# Altium footprint library STM32W.PcbLib: 6 footprints
Each footprint in its own frame and in the unit in brackets; x right, y up, seen from the top. Pads: shape width x height; smd on the part's side, far side on the other; paste and mask are expansions set on the pad; w line width, h text height; cw(c..) or ccw(c..) is an arc to the next point about the centre after c.
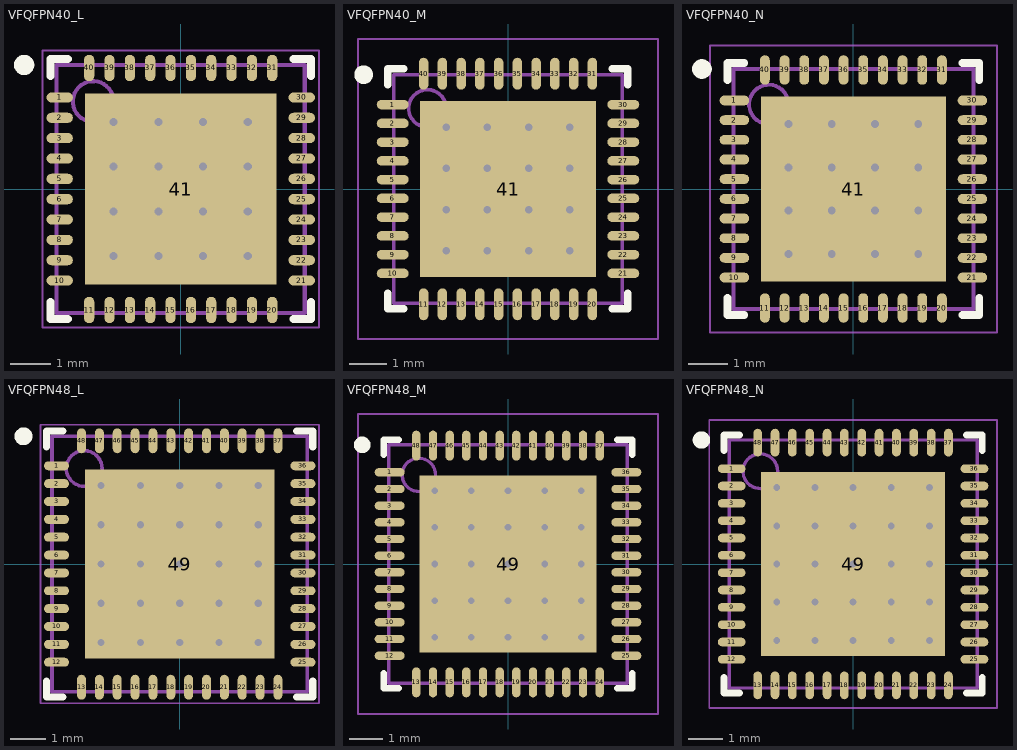
[diagram p0: the footprints below, top view; thin cyan lines are the x and y axes]

## VFQFPN40_L [mm] "QFN, 40-Leads, Body 6x6mm, Pitch 0.5mm, Thermal Pad 4.7x4.7mm, IPC High Density"
height 1
pads (41):
  oval 0.65x0.25 smd: 1(-2.975,2.25) 2(-2.975,1.75) 3(-2.975,1.25) 4(-2.975,0.75) 5(-2.975,0.25) 6(-2.975,-0.25) 7(-2.975,-0.75) 8(-2.975,-1.25) 9(-2.975,-1.75) 10(-2.975,-2.25) 21(2.975,-2.25) 22(2.975,-1.75) 23(2.975,-1.25) 24(2.975,-0.75) 25(2.975,-0.25) 26(2.975,0.25) 27(2.975,0.75) 28(2.975,1.25) 29(2.975,1.75) 30(2.975,2.25)
  oval 0.25x0.65 smd: 11(-2.25,-2.975) 12(-1.75,-2.975) 13(-1.25,-2.975) 14(-0.75,-2.975) 15(-0.25,-2.975) 16(0.25,-2.975) 17(0.75,-2.975) 18(1.25,-2.975) 19(1.75,-2.975) 20(2.25,-2.975) 31(2.25,2.975) 32(1.75,2.975) 33(1.25,2.975) 34(0.75,2.975) 35(0.25,2.975) 36(-0.25,2.975) 37(-0.75,2.975) 38(-1.25,2.975) 39(-1.75,2.975) 40(-2.25,2.975)
  rect 4.7x4.7 smd: 41(0,0)
via -1.65,1.65 diameter 0.5 hole 0.2
via -0.55,1.65 diameter 0.5 hole 0.2
via 0.55,1.65 diameter 0.5 hole 0.2
via 1.65,1.65 diameter 0.5 hole 0.2
via -1.65,0.55 diameter 0.5 hole 0.2
via -0.55,0.55 diameter 0.5 hole 0.2
via 0.55,0.55 diameter 0.5 hole 0.2
via 1.65,0.55 diameter 0.5 hole 0.2
via -1.65,-0.55 diameter 0.5 hole 0.2
via -0.55,-0.55 diameter 0.5 hole 0.2
via 0.55,-0.55 diameter 0.5 hole 0.2
via 1.65,-0.55 diameter 0.5 hole 0.2
via -1.65,-1.65 diameter 0.5 hole 0.2
via -0.55,-1.65 diameter 0.5 hole 0.2
via 0.55,-1.65 diameter 0.5 hole 0.2
via 1.65,-1.65 diameter 0.5 hole 0.2
Top Overlay:
  circle w0.25: c-3.85,3.05 r0.125
  lines w0.2: -3.2,-2.775 -3.2,-3.2 -2.775,-3.2 ; -3.2,2.775 -3.2,3.2 -2.775,3.2 ; 2.775,-3.2 3.2,-3.2 3.2,-2.775 ; 2.775,3.2 3.2,3.2 3.2,2.775
Mechanical 13:
  circle w0.1: c-2.15,2.15 r0.5
  lines w0.1: -3.05,-3.05 -3.05,3.05 3.05,3.05 3.05,-3.05 -3.05,-3.05
Mechanical 15:
  lines w0.05: -3.4,-3.4 -3.4,3.4 3.4,3.4 3.4,-3.4 -3.4,-3.4
  lines w0.1: -0.5,0 0.5,0 ; 0,-0.5 0,0.5
3D body: height 1, standoff 0, extent -3.05,-3.05 3.05,3.05

## VFQFPN40_M [mm] "QFN, 40-Leads, Body 6x6mm, Pitch 0.5mm, Thermal Pad 4.7x4.7mm, IPC Low Density"
height 1
pads (41):
  oval 0.85x0.25 smd: 1(-3.075,2.25) 2(-3.075,1.75) 3(-3.075,1.25) 4(-3.075,0.75) 5(-3.075,0.25) 6(-3.075,-0.25) 7(-3.075,-0.75) 8(-3.075,-1.25) 9(-3.075,-1.75) 10(-3.075,-2.25) 21(3.075,-2.25) 22(3.075,-1.75) 23(3.075,-1.25) 24(3.075,-0.75) 25(3.075,-0.25) 26(3.075,0.25) 27(3.075,0.75) 28(3.075,1.25) 29(3.075,1.75) 30(3.075,2.25)
  oval 0.25x0.85 smd: 11(-2.25,-3.075) 12(-1.75,-3.075) 13(-1.25,-3.075) 14(-0.75,-3.075) 15(-0.25,-3.075) 16(0.25,-3.075) 17(0.75,-3.075) 18(1.25,-3.075) 19(1.75,-3.075) 20(2.25,-3.075) 31(2.25,3.075) 32(1.75,3.075) 33(1.25,3.075) 34(0.75,3.075) 35(0.25,3.075) 36(-0.25,3.075) 37(-0.75,3.075) 38(-1.25,3.075) 39(-1.75,3.075) 40(-2.25,3.075)
  rect 4.7x4.7 smd: 41(0,0)
via -1.65,1.65 diameter 0.5 hole 0.2
via -0.55,1.65 diameter 0.5 hole 0.2
via 0.55,1.65 diameter 0.5 hole 0.2
via 1.65,1.65 diameter 0.5 hole 0.2
via -1.65,0.55 diameter 0.5 hole 0.2
via -0.55,0.55 diameter 0.5 hole 0.2
via 0.55,0.55 diameter 0.5 hole 0.2
via 1.65,0.55 diameter 0.5 hole 0.2
via -1.65,-0.55 diameter 0.5 hole 0.2
via -0.55,-0.55 diameter 0.5 hole 0.2
via 0.55,-0.55 diameter 0.5 hole 0.2
via 1.65,-0.55 diameter 0.5 hole 0.2
via -1.65,-1.65 diameter 0.5 hole 0.2
via -0.55,-1.65 diameter 0.5 hole 0.2
via 0.55,-1.65 diameter 0.5 hole 0.2
via 1.65,-1.65 diameter 0.5 hole 0.2
Top Overlay:
  circle w0.25: c-3.85,3.05 r0.125
  lines w0.2: -3.2,-2.775 -3.2,-3.2 -2.775,-3.2 ; -3.2,2.775 -3.2,3.2 -2.775,3.2 ; 2.775,-3.2 3.2,-3.2 3.2,-2.775 ; 2.775,3.2 3.2,3.2 3.2,2.775
Mechanical 13:
  circle w0.1: c-2.15,2.15 r0.5
  lines w0.1: -3.05,-3.05 -3.05,3.05 3.05,3.05 3.05,-3.05 -3.05,-3.05
Mechanical 15:
  lines w0.05: -4,-4 -4,4 4,4 4,-4 -4,-4
  lines w0.1: -0.5,0 0.5,0 ; 0,-0.5 0,0.5
3D body: height 1, standoff 0, extent -3.05,-3.05 3.05,3.05

## VFQFPN40_N [mm] "QFN, 40-Leads, Body 6x6mm, Pitch 0.5mm, Thermal Pad 4.7x4.7mm, IPC Medium Density"
height 1
pads (41):
  oval 0.75x0.25 smd: 1(-3.025,2.25) 2(-3.025,1.75) 3(-3.025,1.25) 4(-3.025,0.75) 5(-3.025,0.25) 6(-3.025,-0.25) 7(-3.025,-0.75) 8(-3.025,-1.25) 9(-3.025,-1.75) 10(-3.025,-2.25) 21(3.025,-2.25) 22(3.025,-1.75) 23(3.025,-1.25) 24(3.025,-0.75) 25(3.025,-0.25) 26(3.025,0.25) 27(3.025,0.75) 28(3.025,1.25) 29(3.025,1.75) 30(3.025,2.25)
  oval 0.25x0.75 smd: 11(-2.25,-3.025) 12(-1.75,-3.025) 13(-1.25,-3.025) 14(-0.75,-3.025) 15(-0.25,-3.025) 16(0.25,-3.025) 17(0.75,-3.025) 18(1.25,-3.025) 19(1.75,-3.025) 20(2.25,-3.025) 31(2.25,3.025) 32(1.75,3.025) 33(1.25,3.025) 34(0.75,3.025) 35(0.25,3.025) 36(-0.25,3.025) 37(-0.75,3.025) 38(-1.25,3.025) 39(-1.75,3.025) 40(-2.25,3.025)
  rect 4.7x4.7 smd: 41(0,0)
via -1.65,1.65 diameter 0.5 hole 0.2
via -0.55,1.65 diameter 0.5 hole 0.2
via 0.55,1.65 diameter 0.5 hole 0.2
via 1.65,1.65 diameter 0.5 hole 0.2
via -1.65,0.55 diameter 0.5 hole 0.2
via -0.55,0.55 diameter 0.5 hole 0.2
via 0.55,0.55 diameter 0.5 hole 0.2
via 1.65,0.55 diameter 0.5 hole 0.2
via -1.65,-0.55 diameter 0.5 hole 0.2
via -0.55,-0.55 diameter 0.5 hole 0.2
via 0.55,-0.55 diameter 0.5 hole 0.2
via 1.65,-0.55 diameter 0.5 hole 0.2
via -1.65,-1.65 diameter 0.5 hole 0.2
via -0.55,-1.65 diameter 0.5 hole 0.2
via 0.55,-1.65 diameter 0.5 hole 0.2
via 1.65,-1.65 diameter 0.5 hole 0.2
Top Overlay:
  circle w0.25: c-3.85,3.05 r0.125
  lines w0.2: -3.2,-2.775 -3.2,-3.2 -2.775,-3.2 ; -3.2,2.775 -3.2,3.2 -2.775,3.2 ; 2.775,-3.2 3.2,-3.2 3.2,-2.775 ; 2.775,3.2 3.2,3.2 3.2,2.775
Mechanical 13:
  circle w0.1: c-2.15,2.15 r0.5
  lines w0.1: -3.05,-3.05 -3.05,3.05 3.05,3.05 3.05,-3.05 -3.05,-3.05
Mechanical 15:
  lines w0.05: -3.65,-3.65 -3.65,3.65 3.65,3.65 3.65,-3.65 -3.65,-3.65
  lines w0.1: -0.5,0 0.5,0 ; 0,-0.5 0,0.5
3D body: height 1, standoff 0, extent -3.05,-3.05 3.05,3.05

## VFQFPN48_L [mm] "QFN, 48-Leads, Body 7x7mm, Pitch 0.5mm, Thermal Pad 5.3x5.3mm, IPC High Density"
height 1
pads (49):
  oval 0.7x0.25 smd: 1(-3.45,2.75) 2(-3.45,2.25) 3(-3.45,1.75) 4(-3.45,1.25) 5(-3.45,0.75) 6(-3.45,0.25) 7(-3.45,-0.25) 8(-3.45,-0.75) 9(-3.45,-1.25) 10(-3.45,-1.75) 11(-3.45,-2.25) 12(-3.45,-2.75) 25(3.45,-2.75) 26(3.45,-2.25) 27(3.45,-1.75) 28(3.45,-1.25) 29(3.45,-0.75) 30(3.45,-0.25) 31(3.45,0.25) 32(3.45,0.75) 33(3.45,1.25) 34(3.45,1.75) 35(3.45,2.25) 36(3.45,2.75)
  oval 0.25x0.7 smd: 13(-2.75,-3.45) 14(-2.25,-3.45) 15(-1.75,-3.45) 16(-1.25,-3.45) 17(-0.75,-3.45) 18(-0.25,-3.45) 19(0.25,-3.45) 20(0.75,-3.45) 21(1.25,-3.45) 22(1.75,-3.45) 23(2.25,-3.45) 24(2.75,-3.45) 37(2.75,3.45) 38(2.25,3.45) 39(1.75,3.45) 40(1.25,3.45) 41(0.75,3.45) 42(0.25,3.45) 43(-0.25,3.45) 44(-0.75,3.45) 45(-1.25,3.45) 46(-1.75,3.45) 47(-2.25,3.45) 48(-2.75,3.45)
  rect 5.3x5.3 smd: 49(0,0)
via 2.2,-2.2 diameter 0.5 hole 0.2
via 1.1,-2.2 diameter 0.5 hole 0.2
via 0,-2.2 diameter 0.5 hole 0.2
via -1.1,-2.2 diameter 0.5 hole 0.2
via -2.2,-2.2 diameter 0.5 hole 0.2
via 2.2,-1.1 diameter 0.5 hole 0.2
via 1.1,-1.1 diameter 0.5 hole 0.2
via 0,-1.1 diameter 0.5 hole 0.2
via -1.1,-1.1 diameter 0.5 hole 0.2
via -2.2,-1.1 diameter 0.5 hole 0.2
via 2.2,0 diameter 0.5 hole 0.2
via 1.1,0 diameter 0.5 hole 0.2
via 0,0 diameter 0.5 hole 0.2
via -1.1,0 diameter 0.5 hole 0.2
via -2.2,0 diameter 0.5 hole 0.2
via 2.2,1.1 diameter 0.5 hole 0.2
via 1.1,1.1 diameter 0.5 hole 0.2
via 0,1.1 diameter 0.5 hole 0.2
via -1.1,1.1 diameter 0.5 hole 0.2
via -2.2,1.1 diameter 0.5 hole 0.2
via 2.2,2.2 diameter 0.5 hole 0.2
via 1.1,2.2 diameter 0.5 hole 0.2
via 0,2.2 diameter 0.5 hole 0.2
via -1.1,2.2 diameter 0.5 hole 0.2
via -2.2,2.2 diameter 0.5 hole 0.2
Top Overlay:
  circle w0.25: c-4.375,3.575 r0.125
  lines w0.2: -3.725,-3.275 -3.725,-3.725 -3.275,-3.725 ; -3.725,3.275 -3.725,3.725 -3.275,3.725 ; 3.275,-3.725 3.725,-3.725 3.725,-3.275 ; 3.275,3.725 3.725,3.725 3.725,3.275
Mechanical 13:
  circle w0.1: c-2.675,2.675 r0.5
  lines w0.1: -3.575,-3.575 3.575,-3.575 3.575,3.575 -3.575,3.575 -3.575,-3.575
Mechanical 15:
  lines w0.05: -3.9,-3.9 3.9,-3.9 3.9,3.9 -3.9,3.9 -3.9,-3.9
  lines w0.1: -0.5,0 0.5,0 ; 0,-0.5 0,0.5
3D body: height 1, standoff 0, extent -3.575,-3.575 3.575,3.575

## VFQFPN48_M [mm] "QFN, 48-Leads, Body 7x7mm, Pitch 0.5mm, Thermal Pad 5.3x5.3mm, IPC Low Density"
height 1
pads (49):
  oval 0.9x0.25 smd: 1(-3.55,2.75) 2(-3.55,2.25) 3(-3.55,1.75) 4(-3.55,1.25) 5(-3.55,0.75) 6(-3.55,0.25) 7(-3.55,-0.25) 8(-3.55,-0.75) 9(-3.55,-1.25) 10(-3.55,-1.75) 11(-3.55,-2.25) 12(-3.55,-2.75) 25(3.55,-2.75) 26(3.55,-2.25) 27(3.55,-1.75) 28(3.55,-1.25) 29(3.55,-0.75) 30(3.55,-0.25) 31(3.55,0.25) 32(3.55,0.75) 33(3.55,1.25) 34(3.55,1.75) 35(3.55,2.25) 36(3.55,2.75)
  oval 0.25x0.9 smd: 13(-2.75,-3.55) 14(-2.25,-3.55) 15(-1.75,-3.55) 16(-1.25,-3.55) 17(-0.75,-3.55) 18(-0.25,-3.55) 19(0.25,-3.55) 20(0.75,-3.55) 21(1.25,-3.55) 22(1.75,-3.55) 23(2.25,-3.55) 24(2.75,-3.55) 37(2.75,3.55) 38(2.25,3.55) 39(1.75,3.55) 40(1.25,3.55) 41(0.75,3.55) 42(0.25,3.55) 43(-0.25,3.55) 44(-0.75,3.55) 45(-1.25,3.55) 46(-1.75,3.55) 47(-2.25,3.55) 48(-2.75,3.55)
  rect 5.3x5.3 smd: 49(0,0)
via 2.2,-2.2 diameter 0.5 hole 0.2
via 1.1,-2.2 diameter 0.5 hole 0.2
via 0,-2.2 diameter 0.5 hole 0.2
via -1.1,-2.2 diameter 0.5 hole 0.2
via -2.2,-2.2 diameter 0.5 hole 0.2
via 2.2,-1.1 diameter 0.5 hole 0.2
via 1.1,-1.1 diameter 0.5 hole 0.2
via 0,-1.1 diameter 0.5 hole 0.2
via -1.1,-1.1 diameter 0.5 hole 0.2
via -2.2,-1.1 diameter 0.5 hole 0.2
via 2.2,0 diameter 0.5 hole 0.2
via 1.1,0 diameter 0.5 hole 0.2
via 0,0 diameter 0.5 hole 0.2
via -1.1,0 diameter 0.5 hole 0.2
via -2.2,0 diameter 0.5 hole 0.2
via 2.2,1.1 diameter 0.5 hole 0.2
via 1.1,1.1 diameter 0.5 hole 0.2
via 0,1.1 diameter 0.5 hole 0.2
via -1.1,1.1 diameter 0.5 hole 0.2
via -2.2,1.1 diameter 0.5 hole 0.2
via 2.2,2.2 diameter 0.5 hole 0.2
via 1.1,2.2 diameter 0.5 hole 0.2
via 0,2.2 diameter 0.5 hole 0.2
via -1.1,2.2 diameter 0.5 hole 0.2
via -2.2,2.2 diameter 0.5 hole 0.2
Top Overlay:
  circle w0.25: c-4.375,3.575 r0.125
  lines w0.2: -3.725,-3.275 -3.725,-3.725 -3.275,-3.725 ; -3.725,3.275 -3.725,3.725 -3.275,3.725 ; 3.275,-3.725 3.725,-3.725 3.725,-3.275 ; 3.275,3.725 3.725,3.725 3.725,3.275
Mechanical 13:
  circle w0.1: c-2.675,2.675 r0.5
  lines w0.1: -3.575,-3.575 3.575,-3.575 3.575,3.575 -3.575,3.575 -3.575,-3.575
Mechanical 15:
  lines w0.05: -4.5,-4.5 4.5,-4.5 4.5,4.5 -4.5,4.5 -4.5,-4.5
  lines w0.1: -0.5,0 0.5,0 ; 0,-0.5 0,0.5
3D body: height 1, standoff 0, extent -3.575,-3.575 3.575,3.575

## VFQFPN48_N [mm] "QFN, 48-Leads, Body 7x7mm, Pitch 0.5mm, Thermal Pad 5.3x5.3mm, IPC Medium Density"
height 1
pads (49):
  oval 0.8x0.25 smd: 1(-3.5,2.75) 2(-3.5,2.25) 3(-3.5,1.75) 4(-3.5,1.25) 5(-3.5,0.75) 6(-3.5,0.25) 7(-3.5,-0.25) 8(-3.5,-0.75) 9(-3.5,-1.25) 10(-3.5,-1.75) 11(-3.5,-2.25) 12(-3.5,-2.75) 25(3.5,-2.75) 26(3.5,-2.25) 27(3.5,-1.75) 28(3.5,-1.25) 29(3.5,-0.75) 30(3.5,-0.25) 31(3.5,0.25) 32(3.5,0.75) 33(3.5,1.25) 34(3.5,1.75) 35(3.5,2.25) 36(3.5,2.75)
  oval 0.25x0.8 smd: 13(-2.75,-3.5) 14(-2.25,-3.5) 15(-1.75,-3.5) 16(-1.25,-3.5) 17(-0.75,-3.5) 18(-0.25,-3.5) 19(0.25,-3.5) 20(0.75,-3.5) 21(1.25,-3.5) 22(1.75,-3.5) 23(2.25,-3.5) 24(2.75,-3.5) 37(2.75,3.5) 38(2.25,3.5) 39(1.75,3.5) 40(1.25,3.5) 41(0.75,3.5) 42(0.25,3.5) 43(-0.25,3.5) 44(-0.75,3.5) 45(-1.25,3.5) 46(-1.75,3.5) 47(-2.25,3.5) 48(-2.75,3.5)
  rect 5.3x5.3 smd: 49(0,0)
via 2.2,-2.2 diameter 0.5 hole 0.2
via 1.1,-2.2 diameter 0.5 hole 0.2
via 0,-2.2 diameter 0.5 hole 0.2
via -1.1,-2.2 diameter 0.5 hole 0.2
via -2.2,-2.2 diameter 0.5 hole 0.2
via 2.2,-1.1 diameter 0.5 hole 0.2
via 1.1,-1.1 diameter 0.5 hole 0.2
via 0,-1.1 diameter 0.5 hole 0.2
via -1.1,-1.1 diameter 0.5 hole 0.2
via -2.2,-1.1 diameter 0.5 hole 0.2
via 2.2,0 diameter 0.5 hole 0.2
via 1.1,0 diameter 0.5 hole 0.2
via 0,0 diameter 0.5 hole 0.2
via -1.1,0 diameter 0.5 hole 0.2
via -2.2,0 diameter 0.5 hole 0.2
via 2.2,1.1 diameter 0.5 hole 0.2
via 1.1,1.1 diameter 0.5 hole 0.2
via 0,1.1 diameter 0.5 hole 0.2
via -1.1,1.1 diameter 0.5 hole 0.2
via -2.2,1.1 diameter 0.5 hole 0.2
via 2.2,2.2 diameter 0.5 hole 0.2
via 1.1,2.2 diameter 0.5 hole 0.2
via 0,2.2 diameter 0.5 hole 0.2
via -1.1,2.2 diameter 0.5 hole 0.2
via -2.2,2.2 diameter 0.5 hole 0.2
Top Overlay:
  circle w0.25: c-4.375,3.575 r0.125
  lines w0.2: -3.725,-3.275 -3.725,-3.725 -3.275,-3.725 ; -3.725,3.275 -3.725,3.725 -3.275,3.725 ; 3.275,-3.725 3.725,-3.725 3.725,-3.275 ; 3.275,3.725 3.725,3.725 3.725,3.275
Mechanical 13:
  circle w0.1: c-2.675,2.675 r0.5
  lines w0.1: -3.575,-3.575 3.575,-3.575 3.575,3.575 -3.575,3.575 -3.575,-3.575
Mechanical 15:
  lines w0.05: -4.15,-4.15 4.15,-4.15 4.15,4.15 -4.15,4.15 -4.15,-4.15
  lines w0.1: -0.5,0 0.5,0 ; 0,-0.5 0,0.5
3D body: height 1, standoff 0, extent -3.575,-3.575 3.575,3.575